# Altium schematic symbol library Isolator.SchLib: 419 symbols (part 3 of 5)
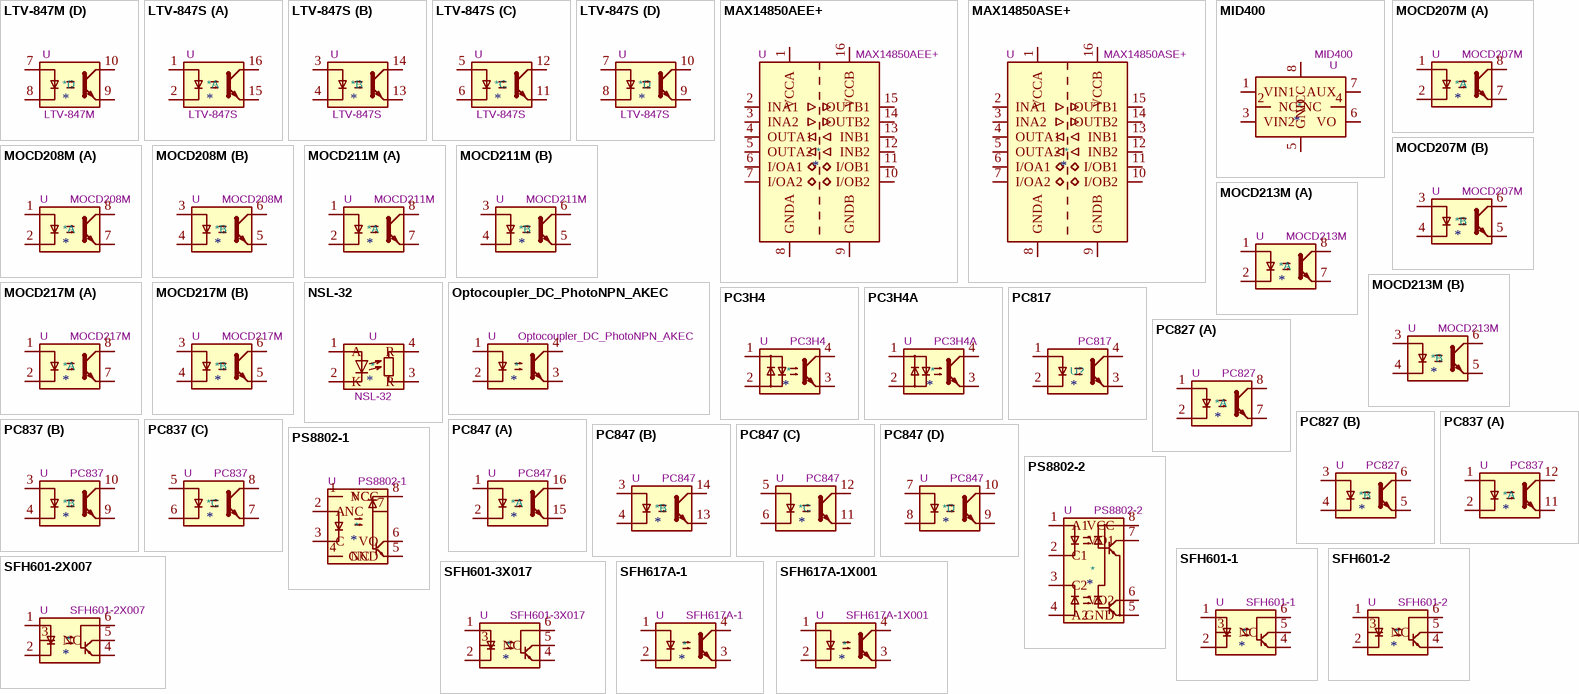
[diagram p14: symbols LTV-847M to SFH617A-1X001]

## PC3H4A
designator *  value PC3H4A  Reference: U
AC/DC Optocoupler, Vce 70V, CTR 100-250%, SOP4; ki_keywords: NPN AC DC Optocoupler; ki_fp_filters: SMDIP*W7.62mm*; Footprint: Package_DIP:SMDIP-4_W7.62mm; Datasheet: http://www.sharpsma.com/webfm_send/395; Description_: AC/DC Optocoupler, Vce 70V, CTR 100-250%, SOP4
pins: 1, 2, 3, 4

## PC817
designator U?  value PC817
DC Optocoupler, Vce 35V, CTR 50-300%, DIP-4; ki_keywords: NPN DC Optocoupler; ki_fp_filters: DIP*W7.62mm*; Reference: U; Footprint: Package_DIP:DIP-4_W7.62mm; Datasheet: http://www.soselectronic.cz/a_info/resource/d/pc817.pdf; Description_: DC Optocoupler, Vce 35V, CTR 50-300%, DIP-4
footprint DIP-4_W7.62mm
footprint DIP-4_W7.62mm_LongPads
pins: 1, 2, 3, 4

## PC827
designator *  value PC827  Reference: U
Dual DC Optocoupler, Vce 35V, CTR 50%, DIP-8; ki_keywords: NPN DC Dual Optocoupler; ki_fp_filters: DIP*W7.62mm*; Footprint: Package_DIP:DIP-8_W7.62mm; Datasheet: http://optoelectronics.liteon.com/upload/download/DS-70-96-0016/LTV-8X7%20series.PDF; Description_: Dual DC Optocoupler, Vce 35V, CTR 50%, DIP-8
part A pins: 1, 2, 7, 8
part B pins: 3, 4, 5, 6

## PC837
designator *  value PC837  Reference: U
DC Triple Optocoupler, Vce 35V, CTR 50-300%, DIP12; ki_keywords: NPN DC Triple Optocoupler; ki_fp_filters: DIP*W7.62mm*; Footprint: Package_DIP:DIP-12_W7.62mm; Datasheet: http://www.soselectronic.cz/a_info/resource/d/pc817.pdf; Description_: DC Triple Optocoupler, Vce 35V, CTR 50-300%, DIP12
part A pins: 1, 2, 11, 12
part B pins: 3, 4, 9, 10
part C pins: 5, 6, 7, 8

## PC847
designator *  value PC847  Reference: U
DC Quad Optocoupler, Vce 35V, CTR 50-300%, DIP16; ki_keywords: NPN DC Quad Optocoupler; ki_fp_filters: DIP*W7.62mm*; Footprint: Package_DIP:DIP-16_W7.62mm; Datasheet: http://www.soselectronic.cz/a_info/resource/d/pc817.pdf; Description_: DC Quad Optocoupler, Vce 35V, CTR 50-300%, DIP16
part A pins: 1, 2, 15, 16
part B pins: 3, 4, 13, 14
part C pins: 5, 6, 11, 12
part D pins: 7, 8, 9, 10

## PS8802-1
designator *  value PS8802-1  Reference: U
Single DC Optocoupler Base Connected, Vcc 35V, CTR 15%, Viso 2500V, SSOP-8; ki_keywords: NPN DC Optocoupler Base Connected; ki_fp_filters: SSOP*3.95x5.21x3.27mm?P1.27mm*; Footprint: Package_SO:SSOP-8_3.95x5.21x3.27mm_P1.27mm; Datasheet: http://www.cel.com/pdf/datasheets/ps8802.pdf; Description_: Single DC Optocoupler Base Connected, Vcc 35V, CTR 15%, Viso 2500V, SSOP-8
pins: 1 NC, 2 A, 3 C, 4 NC, 5 GND, 6 VO, 7 NC, 8 VCC

## PS8802-2
designator *  value PS8802-2  Reference: U
Dual DC Optocoupler Base Connected, Vcc 35V, CTR 15%, Viso 2500V, SSOP-8; ki_keywords: Dual NPN DC Optocoupler Base Connected; ki_fp_filters: SSOP*3.95x5.21x3.27mm?P1.27mm*; Footprint: Package_SO:SSOP-8_3.95x5.21x3.27mm_P1.27mm; Datasheet: http://www.cel.com/pdf/datasheets/ps8802.pdf; Description_: Dual DC Optocoupler Base Connected, Vcc 35V, CTR 15%, Viso 2500V, SSOP-8
pins: 1 A1, 2 C1, 3 C2, 4 A2, 5 GND, 6 VO2, 7 VO1, 8 VCC

## SFH601-1
designator *  value SFH601-1  Reference: U
Optocoupler, phototransistor output with base connection, CTR 40-80%, Vceo 100V, Viso 5000Vrms, DIP-6; ki_keywords: NPN DC-optocoupler; ki_fp_filters: DIP*W7.62mm*; Footprint: Package_DIP:DIP-6_W7.62mm; Datasheet: https://www.vishay.com/docs/83663/sfh601.pdf; Description_: Optocoupler, phototransistor output with base connection, CTR 40-80%, Vceo 100V, Viso 5000Vrms, DIP-6
pins: 1, 2, 3 NC, 4, 5, 6

## SFH601-2
designator *  value SFH601-2  Reference: U
Optocoupler, phototransistor output with base connection, CTR 63-125%, Vceo 100V, Viso 5000Vrms, DIP-6; ki_keywords: NPN DC-optocoupler; ki_fp_filters: DIP*W7.62mm*; Footprint: Package_DIP:DIP-6_W7.62mm; Datasheet: https://www.vishay.com/docs/83663/sfh601.pdf; Description_: Optocoupler, phototransistor output with base connection, CTR 63-125%, Vceo 100V, Viso 5000Vrms, DIP-6
pins: 1, 2, 3 NC, 4, 5, 6

## SFH601-2X007
designator *  value SFH601-2X007  Reference: U
Optocoupler, phototransistor output with base connection, CTR 63-125%, Vceo 100V, Viso 5000Vrms, DIP-6 (SMD, option 7); ki_keywords: NPN DC-optocoupler Obsolete; ki_fp_filters: SMDIP*W7.62mm*; Footprint: Package_DIP:SMDIP-6_W7.62mm; Datasheet: https://docs.rs-online.com/fcc5/0900766b80e308e7.pdf; Description_: Optocoupler, phototransistor output with base connection, CTR 63-125%, Vceo 100V, Viso 5000Vrms, DIP-6 (SMD, option 7)
pins: 1, 2, 3 NC, 4, 5, 6

## SFH601-3X017
designator *  value SFH601-3X017  Reference: U
Optocoupler, phototransistor output with base connection, CTR 100-200%, Vceo 100V, Viso 5000Vrms, DIP-6 (SMD, option 7); ki_keywords: NPN DC-optocoupler; ki_fp_filters: SMDIP*W7.62mm*; Footprint: Package_DIP:SMDIP-6_W7.62mm; Datasheet: https://www.vishay.com/docs/83663/sfh601.pdf; Description_: Optocoupler, phototransistor output with base connection, CTR 100-200%, Vceo 100V, Viso 5000Vrms, DIP-6 (SMD, option 7)
pins: 1, 2, 3 NC, 4, 5, 6

## SFH617A-1
designator *  value SFH617A-1  Reference: U
Optocoupler, Phototransistor Output, 5300 VRMS, VCEO 70V, CTR% 40-80, -55 to +110 degree Celsius, UL, BSI, FIMKO, cUL, THT PDIP-4; ki_fp_filters: DIP*W7.62mm*; Footprint: Package_DIP:DIP-4_W7.62mm; Datasheet: http://www.vishay.com/docs/83740/sfh617a.pdf; Description_: Optocoupler, Phototransistor Output, 5300 VRMS, VCEO 70V, CTR% 40-80, -55 to +110 degree Celsius, UL, BSI, FIMKO, cUL, THT PDIP-4; ki_keywords: Optocoupler, Phototransistor Output, 5300 VRMS, VCEO 70V, CTR% 40-80
pins: 1, 2, 3, 4

## SFH617A-1X001
designator *  value SFH617A-1X001  Reference: U
Optocoupler, Phototransistor Output, 5300 VRMS, VCEO 70V, CTR% 40-80, -55 to +110 degree Celsius, VDE, UL, BSI, FIMKO, cUL, THT PDIP-4; ki_fp_filters: DIP*W7.62mm*; Footprint: Package_DIP:DIP-4_W7.62mm; Datasheet: http://www.vishay.com/docs/83740/sfh617a.pdf; Description_: Optocoupler, Phototransistor Output, 5300 VRMS, VCEO 70V, CTR% 40-80, -55 to +110 degree Celsius, VDE, UL, BSI, FIMKO, cUL, THT PDIP-4; ki_keywords: Optocoupler, Phototransistor Output, 5300 VRMS, VCEO 70V, CTR% 40-80
pins: 1, 2, 3, 4

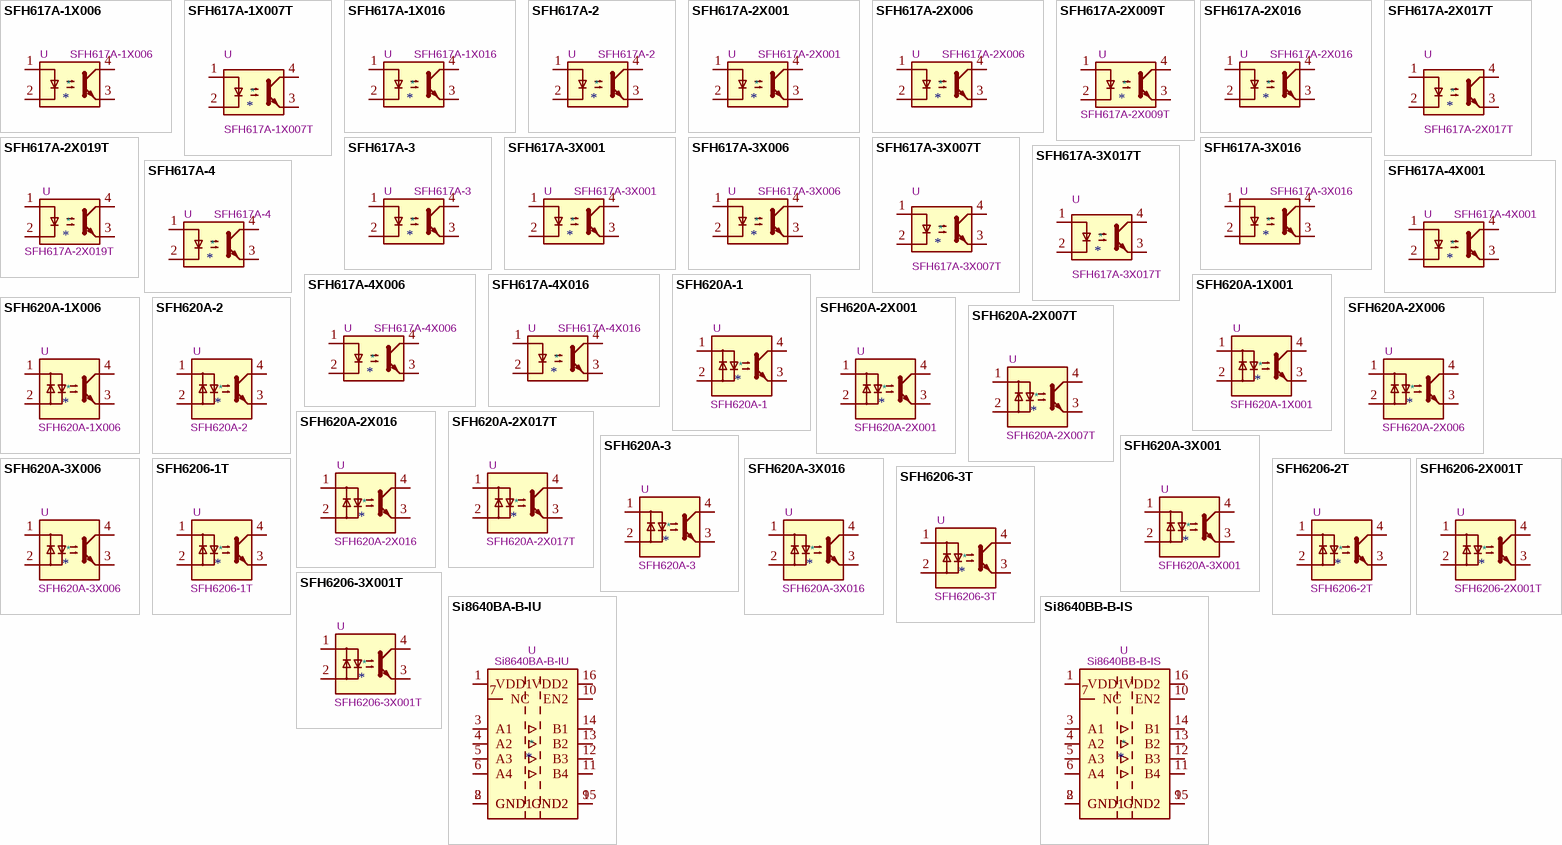
[diagram p6: symbols SFH617A-1X006 to Si8640BB-B-IS]

## SFH617A-1X006
designator *  value SFH617A-1X006  Reference: U
Optocoupler, Phototransistor Output, 5300 VRMS, VCEO 70V, CTR% 40-80, -55 to +110 degree Celsius, UL, BSI, FIMKO, cUL, wide THT PDIP-4; ki_fp_filters: DIP*W10.16mm*; Footprint: Package_DIP:DIP-4_W10.16mm; Datasheet: http://www.vishay.com/docs/83740/sfh617a.pdf; Description_: Optocoupler, Phototransistor Output, 5300 VRMS, VCEO 70V, CTR% 40-80, -55 to +110 degree Celsius, UL, BSI, FIMKO, cUL, wide THT PDIP-4; ki_keywords: Optocoupler, Phototransistor Output, 5300 VRMS, VCEO 70V, CTR% 40-80
pins: 1, 2, 3, 4

## SFH617A-1X007T
designator *  value SFH617A-1X007T  Reference: U
Optocoupler, Phototransistor Output, 5300 VRMS, VCEO 70V, CTR% 40-80, -55 to +110 degree Celsius, UL, BSI, FIMKO, cUL, 8mm clearence SMD PDIP-4; ki_fp_filters: SMDIP*W9.53mm*Clearance8mm*; Footprint: Package_DIP:SMDIP-4_W9.53mm_Clearance8mm; Datasheet: http://www.vishay.com/docs/83740/sfh617a.pdf; Description_: Optocoupler, Phototransistor Output, 5300 VRMS, VCEO 70V, CTR% 40-80, -55 to +110 degree Celsius, UL, BSI, FIMKO, cUL, 8mm clearence SMD PDIP-4; ki_keywords: Optocoupler, Phototransistor Output, 5300 VRMS, VCEO 70V, CTR% 40-80
pins: 1, 2, 3, 4

## SFH617A-1X016
designator *  value SFH617A-1X016  Reference: U
Optocoupler, Phototransistor Output, 5300 VRMS, VCEO 70V, CTR% 40-80, -55 to +110 degree Celsius, VDE, UL, BSI, FIMKO, cUL, wide THT PDIP-4; ki_fp_filters: DIP*W10.16mm*; Footprint: Package_DIP:DIP-4_W10.16mm; Datasheet: http://www.vishay.com/docs/83740/sfh617a.pdf; Description_: Optocoupler, Phototransistor Output, 5300 VRMS, VCEO 70V, CTR% 40-80, -55 to +110 degree Celsius, VDE, UL, BSI, FIMKO, cUL, wide THT PDIP-4; ki_keywords: Optocoupler, Phototransistor Output, 5300 VRMS, VCEO 70V, CTR% 40-80
pins: 1, 2, 3, 4

## SFH617A-2
designator *  value SFH617A-2  Reference: U
Optocoupler, Phototransistor Output, 5300 VRMS, VCEO 70V, CTR% 63-125, -55 to +110 degree Celsius, UL, BSI, FIMKO, cUL, THT PDIP-4; ki_fp_filters: DIP*W7.62mm*; Footprint: Package_DIP:DIP-4_W7.62mm; Datasheet: http://www.vishay.com/docs/83740/sfh617a.pdf; Description_: Optocoupler, Phototransistor Output, 5300 VRMS, VCEO 70V, CTR% 63-125, -55 to +110 degree Celsius, UL, BSI, FIMKO, cUL, THT PDIP-4; ki_keywords: Optocoupler, Phototransistor Output, 5300 VRMS, VCEO 70V, CTR% 63-125
pins: 1, 2, 3, 4

## SFH617A-2X001
designator *  value SFH617A-2X001  Reference: U
Optocoupler, Phototransistor Output, 5300 VRMS, VCEO 70V, CTR% 63-125, -55 to +110 degree Celsius, VDE, UL, BSI, FIMKO, THT PDIP-4; ki_fp_filters: DIP*W7.62mm*; Footprint: Package_DIP:DIP-4_W7.62mm; Datasheet: http://www.vishay.com/docs/83740/sfh617a.pdf; Description_: Optocoupler, Phototransistor Output, 5300 VRMS, VCEO 70V, CTR% 63-125, -55 to +110 degree Celsius, VDE, UL, BSI, FIMKO, THT PDIP-4; ki_keywords: Optocoupler, Phototransistor Output, 5300 VRMS, VCEO 70V, CTR% 63-125
pins: 1, 2, 3, 4

## SFH617A-2X006
designator *  value SFH617A-2X006  Reference: U
Optocoupler, Phototransistor Output, 5300 VRMS, VCEO 70V, CTR% 63-125, -55 to +110 degree Celsius, UL, BSI, FIMKO, cUL, wide THT PDIP-4; ki_fp_filters: DIP*W10.16mm*; Footprint: Package_DIP:DIP-4_W10.16mm; Datasheet: http://www.vishay.com/docs/83740/sfh617a.pdf; Description_: Optocoupler, Phototransistor Output, 5300 VRMS, VCEO 70V, CTR% 63-125, -55 to +110 degree Celsius, UL, BSI, FIMKO, cUL, wide THT PDIP-4; ki_keywords: Optocoupler, Phototransistor Output, 5300 VRMS, VCEO 70V, CTR% 63-125
pins: 1, 2, 3, 4

## SFH617A-2X009T
designator *  value SFH617A-2X009T  Reference: U
Optocoupler, Phototransistor Output, 5300 VRMS, VCEO 70V, CTR% 63-125, -55 to +110 degree Celsius, UL, BSI, FIMKO, SMD PDIP-4; ki_fp_filters: SMDIP*W9.53mm*Clearance8mm*; Footprint: Package_DIP:SMDIP-4_W9.53mm_Clearance8mm; Datasheet: http://www.vishay.com/docs/83740/sfh617a.pdf; Description_: Optocoupler, Phototransistor Output, 5300 VRMS, VCEO 70V, CTR% 63-125, -55 to +110 degree Celsius, UL, BSI, FIMKO, SMD PDIP-4; ki_keywords: Optocoupler, Phototransistor Output, 5300 VRMS, VCEO 70V, CTR% 63-125
pins: 1, 2, 3, 4

## SFH617A-2X016
designator *  value SFH617A-2X016  Reference: U
Optocoupler, Phototransistor Output, 5300 VRMS, VCEO 70V, CTR% 63-125, -55 to +110 degree Celsius, VDE, UL, BSI, FIMKO, wide THT PDIP-4; ki_fp_filters: DIP*W10.16mm*; Footprint: Package_DIP:DIP-4_W10.16mm; Datasheet: http://www.vishay.com/docs/83740/sfh617a.pdf; Description_: Optocoupler, Phototransistor Output, 5300 VRMS, VCEO 70V, CTR% 63-125, -55 to +110 degree Celsius, VDE, UL, BSI, FIMKO, wide THT PDIP-4; ki_keywords: Optocoupler, Phototransistor Output, 5300 VRMS, VCEO 70V, CTR% 63-125
pins: 1, 2, 3, 4

## SFH617A-2X017T
designator *  value SFH617A-2X017T  Reference: U
Optocoupler, Phototransistor Output, 5300 VRMS, VCEO 70V, CTR% 63-125, -55 to +110 degree Celsius, VDE, UL, BSI, FIMKO, 8mm clearence SMD PDIP-4; ki_fp_filters: SMDIP*W9.53mm*Clearance8mm*; Footprint: Package_DIP:SMDIP-4_W9.53mm_Clearance8mm; Datasheet: http://www.vishay.com/docs/83740/sfh617a.pdf; Description_: Optocoupler, Phototransistor Output, 5300 VRMS, VCEO 70V, CTR% 63-125, -55 to +110 degree Celsius, VDE, UL, BSI, FIMKO, 8mm clearence SMD PDIP-4; ki_keywords: Optocoupler, Phototransistor Output, 5300 VRMS, VCEO 70V, CTR% 63-125
pins: 1, 2, 3, 4

## SFH617A-2X019T
designator *  value SFH617A-2X019T  Reference: U
Optocoupler, Phototransistor Output, 5300 VRMS, VCEO 70V, CTR% 63-125, -55 to +110 degree Celsius, VDE, UL, BSI, FIMKO, SMD PDIP-4; ki_fp_filters: SMDIP*W9.53mm*Clearance8mm*; Footprint: Package_DIP:SMDIP-4_W9.53mm_Clearance8mm; Datasheet: http://www.vishay.com/docs/83740/sfh617a.pdf; Description_: Optocoupler, Phototransistor Output, 5300 VRMS, VCEO 70V, CTR% 63-125, -55 to +110 degree Celsius, VDE, UL, BSI, FIMKO, SMD PDIP-4; ki_keywords: Optocoupler, Phototransistor Output, 5300 VRMS, VCEO 70V, CTR% 63-125
pins: 1, 2, 3, 4

## SFH617A-3
designator *  value SFH617A-3  Reference: U
Optocoupler, Phototransistor Output, 5300 VRMS, VCEO 70V, CTR% 100-200, -55 to +110 degree Celsius, UL, BSI, FIMKO, THT PDIP-4; ki_fp_filters: DIP*W7.62mm*; Footprint: Package_DIP:DIP-4_W7.62mm; Datasheet: http://www.vishay.com/docs/83740/sfh617a.pdf; Description_: Optocoupler, Phototransistor Output, 5300 VRMS, VCEO 70V, CTR% 100-200, -55 to +110 degree Celsius, UL, BSI, FIMKO, THT PDIP-4; ki_keywords: Optocoupler, Phototransistor Output, 5300 VRMS, VCEO 70V, CTR% 100-200
pins: 1, 2, 3, 4

## SFH617A-3X001
designator *  value SFH617A-3X001  Reference: U
Optocoupler, Phototransistor Output, 5300 VRMS, VCEO 70V, CTR% 100-200, -55 to +110 degree Celsius, VDE, UL, BSI, FIMKO, THT PDIP-4; ki_fp_filters: DIP*W7.62mm*; Footprint: Package_DIP:DIP-4_W7.62mm; Datasheet: http://www.vishay.com/docs/83740/sfh617a.pdf; Description_: Optocoupler, Phototransistor Output, 5300 VRMS, VCEO 70V, CTR% 100-200, -55 to +110 degree Celsius, VDE, UL, BSI, FIMKO, THT PDIP-4; ki_keywords: Optocoupler, Phototransistor Output, 5300 VRMS, VCEO 70V, CTR% 100-200
pins: 1, 2, 3, 4

## SFH617A-3X006
designator *  value SFH617A-3X006  Reference: U
Optocoupler, Phototransistor Output, 5300 VRMS, VCEO 70V, CTR% 100-200, -55 to +110 degree Celsius, VDE, UL, BSI, FIMKO, wide THT PDIP-4; ki_fp_filters: DIP*W10.16mm*; Footprint: Package_DIP:DIP-4_W10.16mm; Datasheet: http://www.vishay.com/docs/83740/sfh617a.pdf; Description_: Optocoupler, Phototransistor Output, 5300 VRMS, VCEO 70V, CTR% 100-200, -55 to +110 degree Celsius, VDE, UL, BSI, FIMKO, wide THT PDIP-4; ki_keywords: Optocoupler, Phototransistor Output, 5300 VRMS, VCEO 70V, CTR% 100-200
pins: 1, 2, 3, 4

## SFH617A-3X007T
designator *  value SFH617A-3X007T  Reference: U
Optocoupler, Phototransistor Output, 5300 VRMS, VCEO 70V, CTR% 40-80, -55 to +110 degree Celsius, UL, BSI, FIMKO, cUL, 8mm clearence SMD PDIP-4; ki_fp_filters: SMDIP*W9.53mm*Clearance8mm*; Footprint: Package_DIP:SMDIP-4_W9.53mm_Clearance8mm; Datasheet: http://www.vishay.com/docs/83740/sfh617a.pdf; Description_: Optocoupler, Phototransistor Output, 5300 VRMS, VCEO 70V, CTR% 40-80, -55 to +110 degree Celsius, UL, BSI, FIMKO, cUL, 8mm clearence SMD PDIP-4; ki_keywords: Optocoupler, Phototransistor Output, 5300 VRMS, VCEO 70V, CTR% 40-80
pins: 1, 2, 3, 4

## SFH617A-3X016
designator *  value SFH617A-3X016  Reference: U
Optocoupler, Phototransistor Output, 5300 VRMS, VCEO 70V, CTR% 100-200, -55 to +110 degree Celsius, VDE, UL, BSI, FIMKO, wide THT PDIP-4; ki_fp_filters: DIP*W10.16mm*; Footprint: Package_DIP:DIP-4_W10.16mm; Datasheet: http://www.vishay.com/docs/83740/sfh617a.pdf; Description_: Optocoupler, Phototransistor Output, 5300 VRMS, VCEO 70V, CTR% 100-200, -55 to +110 degree Celsius, VDE, UL, BSI, FIMKO, wide THT PDIP-4; ki_keywords: Optocoupler, Phototransistor Output, 5300 VRMS, VCEO 70V, CTR% 100-200
pins: 1, 2, 3, 4

## SFH617A-3X017T
designator *  value SFH617A-3X017T  Reference: U
Optocoupler, Phototransistor Output, 5300 VRMS, VCEO 70V, CTR% 100-200, -55 to +110 degree Celsius, VDE, UL, BSI, FIMKO, 8mm clearence SMD PDIP-4; ki_fp_filters: SMDIP*W9.53mm*Clearance8mm*; Footprint: Package_DIP:SMDIP-4_W9.53mm_Clearance8mm; Datasheet: http://www.vishay.com/docs/83740/sfh617a.pdf; Description_: Optocoupler, Phototransistor Output, 5300 VRMS, VCEO 70V, CTR% 100-200, -55 to +110 degree Celsius, VDE, UL, BSI, FIMKO, 8mm clearence SMD PDIP-4; ki_keywords: Optocoupler, Phototransistor Output, 5300 VRMS, VCEO 70V, CTR% 100-200
pins: 1, 2, 3, 4

## SFH617A-4
designator *  value SFH617A-4  Reference: U
Optocoupler, Phototransistor Output, 5300 VRMS, VCEO 70V, CTR% 160-320, -55 to +110 degree Celsius, UL, BSI, FIMKO, cUL, THT PDIP-4; ki_fp_filters: DIP*W7.62mm*; Footprint: Package_DIP:DIP-4_W7.62mm; Datasheet: http://www.vishay.com/docs/83740/sfh617a.pdf; Description_: Optocoupler, Phototransistor Output, 5300 VRMS, VCEO 70V, CTR% 160-320, -55 to +110 degree Celsius, UL, BSI, FIMKO, cUL, THT PDIP-4; ki_keywords: Optocoupler, Phototransistor Output, 5300 VRMS, VCEO 70V, CTR% 160-320
pins: 1, 2, 3, 4

## SFH617A-4X001
designator *  value SFH617A-4X001  Reference: U
Optocoupler, Phototransistor Output, 5300 VRMS, VCEO 70V, CTR% 160-320, -55 to +110 degree Celsius, VDE, UL, BSI, FIMKO, THT PDIP-4; ki_fp_filters: DIP*W7.62mm*; Footprint: Package_DIP:DIP-4_W7.62mm; Datasheet: http://www.vishay.com/docs/83740/sfh617a.pdf; Description_: Optocoupler, Phototransistor Output, 5300 VRMS, VCEO 70V, CTR% 160-320, -55 to +110 degree Celsius, VDE, UL, BSI, FIMKO, THT PDIP-4; ki_keywords: Optocoupler, Phototransistor Output, 5300 VRMS, VCEO 70V, CTR% 160-320
pins: 1, 2, 3, 4

## SFH617A-4X006
designator *  value SFH617A-4X006  Reference: U
Optocoupler, Phototransistor Output, 5300 VRMS, VCEO 70V, CTR% 160-320, -55 to +110 degree Celsius, UL, BSI, FIMKO, cUL, wide THT PDIP-4; ki_fp_filters: DIP*W10.16mm*; Footprint: Package_DIP:DIP-4_W10.16mm; Datasheet: http://www.vishay.com/docs/83740/sfh617a.pdf; Description_: Optocoupler, Phototransistor Output, 5300 VRMS, VCEO 70V, CTR% 160-320, -55 to +110 degree Celsius, UL, BSI, FIMKO, cUL, wide THT PDIP-4; ki_keywords: Optocoupler, Phototransistor Output, 5300 VRMS, VCEO 70V, CTR% 160-320
pins: 1, 2, 3, 4

## SFH617A-4X016
designator *  value SFH617A-4X016  Reference: U
Optocoupler, Phototransistor Output, 5300 VRMS, VCEO 70V, CTR% 160-320, -55 to +110 degree Celsius, VDE, UL, BSI, FIMKO, wide THT PDIP-4; ki_fp_filters: DIP*W10.16mm*; Footprint: Package_DIP:DIP-4_W10.16mm; Datasheet: http://www.vishay.com/docs/83740/sfh617a.pdf; Description_: Optocoupler, Phototransistor Output, 5300 VRMS, VCEO 70V, CTR% 160-320, -55 to +110 degree Celsius, VDE, UL, BSI, FIMKO, wide THT PDIP-4; ki_keywords: Optocoupler, Phototransistor Output, 5300 VRMS, VCEO 70V, CTR% 160-320
pins: 1, 2, 3, 4

## SFH620A-1
designator *  value SFH620A-1  Reference: U
Optocoupler, Phototransistor Output, 5300 VRMS, VCEO 70V, CTR% 40-125, UL, cUL, BSI, THT PDIP-4; ki_fp_filters: DIP*W7.62mm*; Footprint: Package_DIP:DIP-4_W7.62mm; Datasheet: http://www.vishay.com/docs/83675/sfh620a.pdf; Description_: Optocoupler, Phototransistor Output, 5300 VRMS, VCEO 70V, CTR% 40-125, UL, cUL, BSI, THT PDIP-4; ki_keywords: Optocoupler, Phototransistor Output, 5300 VRMS, VCEO 70V, CTR% 40-125
pins: 1, 2, 3, 4

## SFH620A-1X001
designator *  value SFH620A-1X001  Reference: U
Optocoupler, Phototransistor Output, 5300 VRMS, VCEO 70V, CTR% 40-125 VDE, UL, CUL, BSI, THT PDIP-4; ki_fp_filters: DIP*W7.62mm*; Footprint: Package_DIP:DIP-4_W7.62mm; Datasheet: http://www.vishay.com/docs/83675/sfh620a.pdf; Description_: Optocoupler, Phototransistor Output, 5300 VRMS, VCEO 70V, CTR% 40-125 VDE, UL, CUL, BSI, THT PDIP-4; ki_keywords: Optocoupler, Phototransistor Output, 5300 VRMS, VCEO 70V, CTR% 40-125
pins: 1, 2, 3, 4

## SFH620A-1X006
designator *  value SFH620A-1X006  Reference: U
Optocoupler, Phototransistor Output, 5300 VRMS, VCEO 70V, CTR% 40-125, UL, cUL, BSI, THT PDIP-4; ki_fp_filters: DIP*W10.16mm*; Footprint: Package_DIP:DIP-4_W10.16mm; Datasheet: http://www.vishay.com/docs/83675/sfh620a.pdf; Description_: Optocoupler, Phototransistor Output, 5300 VRMS, VCEO 70V, CTR% 40-125, UL, cUL, BSI, THT PDIP-4; ki_keywords: Optocoupler, Phototransistor Output, 5300 VRMS, VCEO 70V, CTR% 40-125
pins: 1, 2, 3, 4

## SFH620A-2
designator *  value SFH620A-2  Reference: U
Optocoupler, Phototransistor Output, 5300 VRMS, VCEO 70V, CTR% 63-200 UL, cUL, BSI, THT PDIP-4; ki_fp_filters: DIP*W7.62mm*; Footprint: Package_DIP:DIP-4_W7.62mm; Datasheet: http://www.vishay.com/docs/83675/sfh620a.pdf; Description_: Optocoupler, Phototransistor Output, 5300 VRMS, VCEO 70V, CTR% 63-200 UL, cUL, BSI, THT PDIP-4; ki_keywords: Optocoupler, Phototransistor Output, 5300 VRMS, VCEO 70V, CTR% 63-200
pins: 1, 2, 3, 4

## SFH620A-2X001
designator *  value SFH620A-2X001  Reference: U
Optocoupler, Phototransistor Output, 5300 VRMS, VCEO 70V, CTR% 63-200 VDE, UL, CUL, BSI, THT PDIP-4; ki_fp_filters: DIP*W7.62mm*; Footprint: Package_DIP:DIP-4_W7.62mm; Datasheet: http://www.vishay.com/docs/83675/sfh620a.pdf; Description_: Optocoupler, Phototransistor Output, 5300 VRMS, VCEO 70V, CTR% 63-200 VDE, UL, CUL, BSI, THT PDIP-4; ki_keywords: Optocoupler, Phototransistor Output, 5300 VRMS, VCEO 70V, CTR% 63-200
pins: 1, 2, 3, 4

## SFH620A-2X006
designator *  value SFH620A-2X006  Reference: U
Optocoupler, Phototransistor Output, 5300 VRMS, VCEO 70V, CTR% 63-200 UL, cUL, BSI, THT PDIP-4; ki_fp_filters: DIP*W10.16mm*; Footprint: Package_DIP:DIP-4_W10.16mm; Datasheet: http://www.vishay.com/docs/83675/sfh620a.pdf; Description_: Optocoupler, Phototransistor Output, 5300 VRMS, VCEO 70V, CTR% 63-200 UL, cUL, BSI, THT PDIP-4; ki_keywords: Optocoupler, Phototransistor Output, 5300 VRMS, VCEO 70V, CTR% 63-200
pins: 1, 2, 3, 4

## SFH620A-2X007T
designator *  value SFH620A-2X007T  Reference: U
Optocoupler, Phototransistor Output, 5300 VRMS, VCEO 70V, CTR% 63-200 UL, cUL, BSI, SMD-4; ki_fp_filters: SMDIP*W9.53mm?Clearance8mm*; Footprint: Package_DIP:SMDIP-4_W9.53mm_Clearance8mm; Datasheet: http://www.vishay.com/docs/83675/sfh620a.pdf; Description_: Optocoupler, Phototransistor Output, 5300 VRMS, VCEO 70V, CTR% 63-200 UL, cUL, BSI, SMD-4; ki_keywords: Optocoupler, Phototransistor Output, 5300 VRMS, VCEO 70V, CTR% 63-200
pins: 1, 2, 3, 4

## SFH620A-2X016
designator *  value SFH620A-2X016  Reference: U
Optocoupler, Phototransistor Output, 5300 VRMS, VCEO 70V, CTR% 63-200 VDE, UL, CUL, BSI, SMD-4; ki_fp_filters: DIP*W10.16mm*; Footprint: Package_DIP:DIP-4_W10.16mm; Datasheet: http://www.vishay.com/docs/83675/sfh620a.pdf; Description_: Optocoupler, Phototransistor Output, 5300 VRMS, VCEO 70V, CTR% 63-200 VDE, UL, CUL, BSI, SMD-4; ki_keywords: Optocoupler, Phototransistor Output, 5300 VRMS, VCEO 70V, CTR% 63-200
pins: 1, 2, 3, 4

## SFH620A-2X017T
designator *  value SFH620A-2X017T  Reference: U
Optocoupler, Phototransistor Output, 5300 VRMS, VCEO 70V, CTR% 63-200 VDE, UL, CUL, BSI, SMD-4; ki_fp_filters: SMDIP*W9.53mm?Clearance8mm*; Footprint: Package_DIP:SMDIP-4_W9.53mm_Clearance8mm; Datasheet: http://www.vishay.com/docs/83675/sfh620a.pdf; Description_: Optocoupler, Phototransistor Output, 5300 VRMS, VCEO 70V, CTR% 63-200 VDE, UL, CUL, BSI, SMD-4; ki_keywords: Optocoupler, Phototransistor Output, 5300 VRMS, VCEO 70V, CTR% 63-200
pins: 1, 2, 3, 4

## SFH620A-3
designator *  value SFH620A-3  Reference: U
Optocoupler, Phototransistor Output, 5300 VRMS, VCEO 70V, CTR% 100-320 UL, cUL, BSI, THT PDIP-4; ki_fp_filters: DIP*W7.62mm*; Footprint: Package_DIP:DIP-4_W7.62mm; Datasheet: http://www.vishay.com/docs/83675/sfh620a.pdf; Description_: Optocoupler, Phototransistor Output, 5300 VRMS, VCEO 70V, CTR% 100-320 UL, cUL, BSI, THT PDIP-4; ki_keywords: Optocoupler, Phototransistor Output, 5300 VRMS, VCEO 70V, CTR% 100-320
pins: 1, 2, 3, 4

## SFH620A-3X001
designator *  value SFH620A-3X001  Reference: U
Optocoupler, Phototransistor Output, 5300 VRMS, VCEO 70V, CTR% 100-320 VDE, UL, CUL, BSI, THT PDIP-4; ki_fp_filters: DIP*W7.62mm*; Footprint: Package_DIP:DIP-4_W7.62mm; Datasheet: http://www.vishay.com/docs/83675/sfh620a.pdf; Description_: Optocoupler, Phototransistor Output, 5300 VRMS, VCEO 70V, CTR% 100-320 VDE, UL, CUL, BSI, THT PDIP-4; ki_keywords: Optocoupler, Phototransistor Output, 5300 VRMS, VCEO 70V, CTR% 100-320
pins: 1, 2, 3, 4

## SFH620A-3X006
designator *  value SFH620A-3X006  Reference: U
Optocoupler, Phototransistor Output, 5300 VRMS, VCEO 70V, CTR% 100-320 UL, cUL, BSI, THT PDIP-4; ki_fp_filters: DIP*W10.16mm*; Footprint: Package_DIP:DIP-4_W10.16mm; Datasheet: http://www.vishay.com/docs/83675/sfh620a.pdf; Description_: Optocoupler, Phototransistor Output, 5300 VRMS, VCEO 70V, CTR% 100-320 UL, cUL, BSI, THT PDIP-4; ki_keywords: Optocoupler, Phototransistor Output, 5300 VRMS, VCEO 70V, CTR% 100-320
pins: 1, 2, 3, 4

## SFH620A-3X016
designator *  value SFH620A-3X016  Reference: U
Optocoupler, Phototransistor Output, 5300 VRMS, VCEO 70V, CTR% 100-320 VDE, UL, CUL, BSI, SMD-4; ki_fp_filters: DIP*W10.16mm*; Footprint: Package_DIP:DIP-4_W10.16mm; Datasheet: http://www.vishay.com/docs/83675/sfh620a.pdf; Description_: Optocoupler, Phototransistor Output, 5300 VRMS, VCEO 70V, CTR% 100-320 VDE, UL, CUL, BSI, SMD-4; ki_keywords: Optocoupler, Phototransistor Output, 5300 VRMS, VCEO 70V, CTR% 100-320
pins: 1, 2, 3, 4

## SFH6206-1T
designator *  value SFH6206-1T  Reference: U
Optocoupler, Phototransistor Output, 5300 VRMS, VCEO 70V, CTR% 40-125, UL, cUL, BSI, SMD-4; ki_fp_filters: SMDIP*W9.53mm?Clearance8mm*; Footprint: Package_DIP:SMDIP-4_W9.53mm_Clearance8mm; Datasheet: http://www.vishay.com/docs/83675/sfh620a.pdf; Description_: Optocoupler, Phototransistor Output, 5300 VRMS, VCEO 70V, CTR% 40-125, UL, cUL, BSI, SMD-4; ki_keywords: Optocoupler, Phototransistor Output, 5300 VRMS, VCEO 70V, CTR% 40-125
pins: 1, 2, 3, 4

## SFH6206-2T
designator *  value SFH6206-2T  Reference: U
Optocoupler, Phototransistor Output, 5300 VRMS, VCEO 70V, CTR% 63-200, UL, cUL, BSI, SMD-4; ki_fp_filters: SMDIP*W9.53mm?Clearance8mm*; Footprint: Package_DIP:SMDIP-4_W9.53mm_Clearance8mm; Datasheet: http://www.vishay.com/docs/83675/sfh620a.pdf; Description_: Optocoupler, Phototransistor Output, 5300 VRMS, VCEO 70V, CTR% 63-200, UL, cUL, BSI, SMD-4; ki_keywords: Optocoupler, Phototransistor Output, 5300 VRMS, VCEO 70V, CTR% 63-200
pins: 1, 2, 3, 4

## SFH6206-2X001T
designator *  value SFH6206-2X001T  Reference: U
Optocoupler, Phototransistor Output, 5300 VRMS, VCEO 70V, CTR% 63-200, VDE, UL, CUL, BSI, SMD-4; ki_fp_filters: SMDIP*W9.53mm?Clearance8mm*; Footprint: Package_DIP:SMDIP-4_W9.53mm_Clearance8mm; Datasheet: http://www.vishay.com/docs/83675/sfh620a.pdf; Description_: Optocoupler, Phototransistor Output, 5300 VRMS, VCEO 70V, CTR% 63-200, VDE, UL, CUL, BSI, SMD-4; ki_keywords: Optocoupler, Phototransistor Output, 5300 VRMS, VCEO 70V, CTR% 63-200
pins: 1, 2, 3, 4

## SFH6206-3T
designator *  value SFH6206-3T  Reference: U
Optocoupler, Phototransistor Output, 5300 VRMS, VCEO 70V, CTR% 100-320, UL, cUL, BSI, SMD-4; ki_fp_filters: SMDIP*W9.53mm?Clearance8mm*; Footprint: Package_DIP:SMDIP-4_W9.53mm_Clearance8mm; Datasheet: http://www.vishay.com/docs/83675/sfh620a.pdf; Description_: Optocoupler, Phototransistor Output, 5300 VRMS, VCEO 70V, CTR% 100-320, UL, cUL, BSI, SMD-4; ki_keywords: Optocoupler, Phototransistor Output, 5300 VRMS, VCEO 70V, CTR% 100-320
pins: 1, 2, 3, 4

## SFH6206-3X001T
designator *  value SFH6206-3X001T  Reference: U
Optocoupler, Phototransistor Output, 5300 VRMS, VCEO 70V, CTR% 100-320, VDE, UL, CUL, BSI, SMD-4; ki_fp_filters: SMDIP*W9.53mm?Clearance8mm*; Footprint: Package_DIP:SMDIP-4_W9.53mm_Clearance8mm; Datasheet: http://www.vishay.com/docs/83675/sfh620a.pdf; Description_: Optocoupler, Phototransistor Output, 5300 VRMS, VCEO 70V, CTR% 100-320, VDE, UL, CUL, BSI, SMD-4; ki_keywords: Optocoupler, Phototransistor Output, 5300 VRMS, VCEO 70V, CTR% 100-320
pins: 1, 2, 3, 4

## Si8640BA-B-IU
designator *  value Si8640BA-B-IU  Reference: U
Low-Power Quad-Channel Digital Isolator, 150Mbps, 2.5-5.5V, 1.0kV isolation, Fail-Safe Low, QSOP-16; ki_keywords: 4Ch 4In Quad Digital Isolator 150Mbps; ki_fp_filters: QSOP*3.9x4.9mm*P0.635mm*; Footprint: Package_SO:QSOP-16_3.9x4.9mm_P0.635mm; Datasheet: https://www.silabs.com/documents/public/data-sheets/si864x-datasheet.pdf; Description_: Low-Power Quad-Channel Digital Isolator, 150Mbps, 2.5-5.5V, 1.0kV isolation, Fail-Safe Low, QSOP-16
pins: 1 VDD1, 2 GND1, 3 A1, 4 A2, 5 A3, 6 A4, 7 NC, 8 GND1, 9 GND2, 10 EN2, 11 B4, 12 B3, 13 B2, 14 B1, 15 GND2, 16 VDD2

## Si8640BB-B-IS
designator *  value Si8640BB-B-IS  Reference: U
Low-Power Quad-Channel Digital Isolator, 150Mbps, 2.5-5.5V, 2.5kV isolation, Fail-Safe Low, SOIC-16W; ki_keywords: 4Ch 4In Quad Digital Isolator 150Mbps; ki_fp_filters: SOIC*7.5x10.3mm*P1.27mm*; Footprint: Package_SO:SOIC-16W_7.5x10.3mm_P1.27mm; Datasheet: https://www.silabs.com/documents/public/data-sheets/si864x-datasheet.pdf; Description_: Low-Power Quad-Channel Digital Isolator, 150Mbps, 2.5-5.5V, 2.5kV isolation, Fail-Safe Low, SOIC-16W
pins: 1 VDD1, 2 GND1, 3 A1, 4 A2, 5 A3, 6 A4, 7 NC, 8 GND1, 9 GND2, 10 EN2, 11 B4, 12 B3, 13 B2, 14 B1, 15 GND2, 16 VDD2

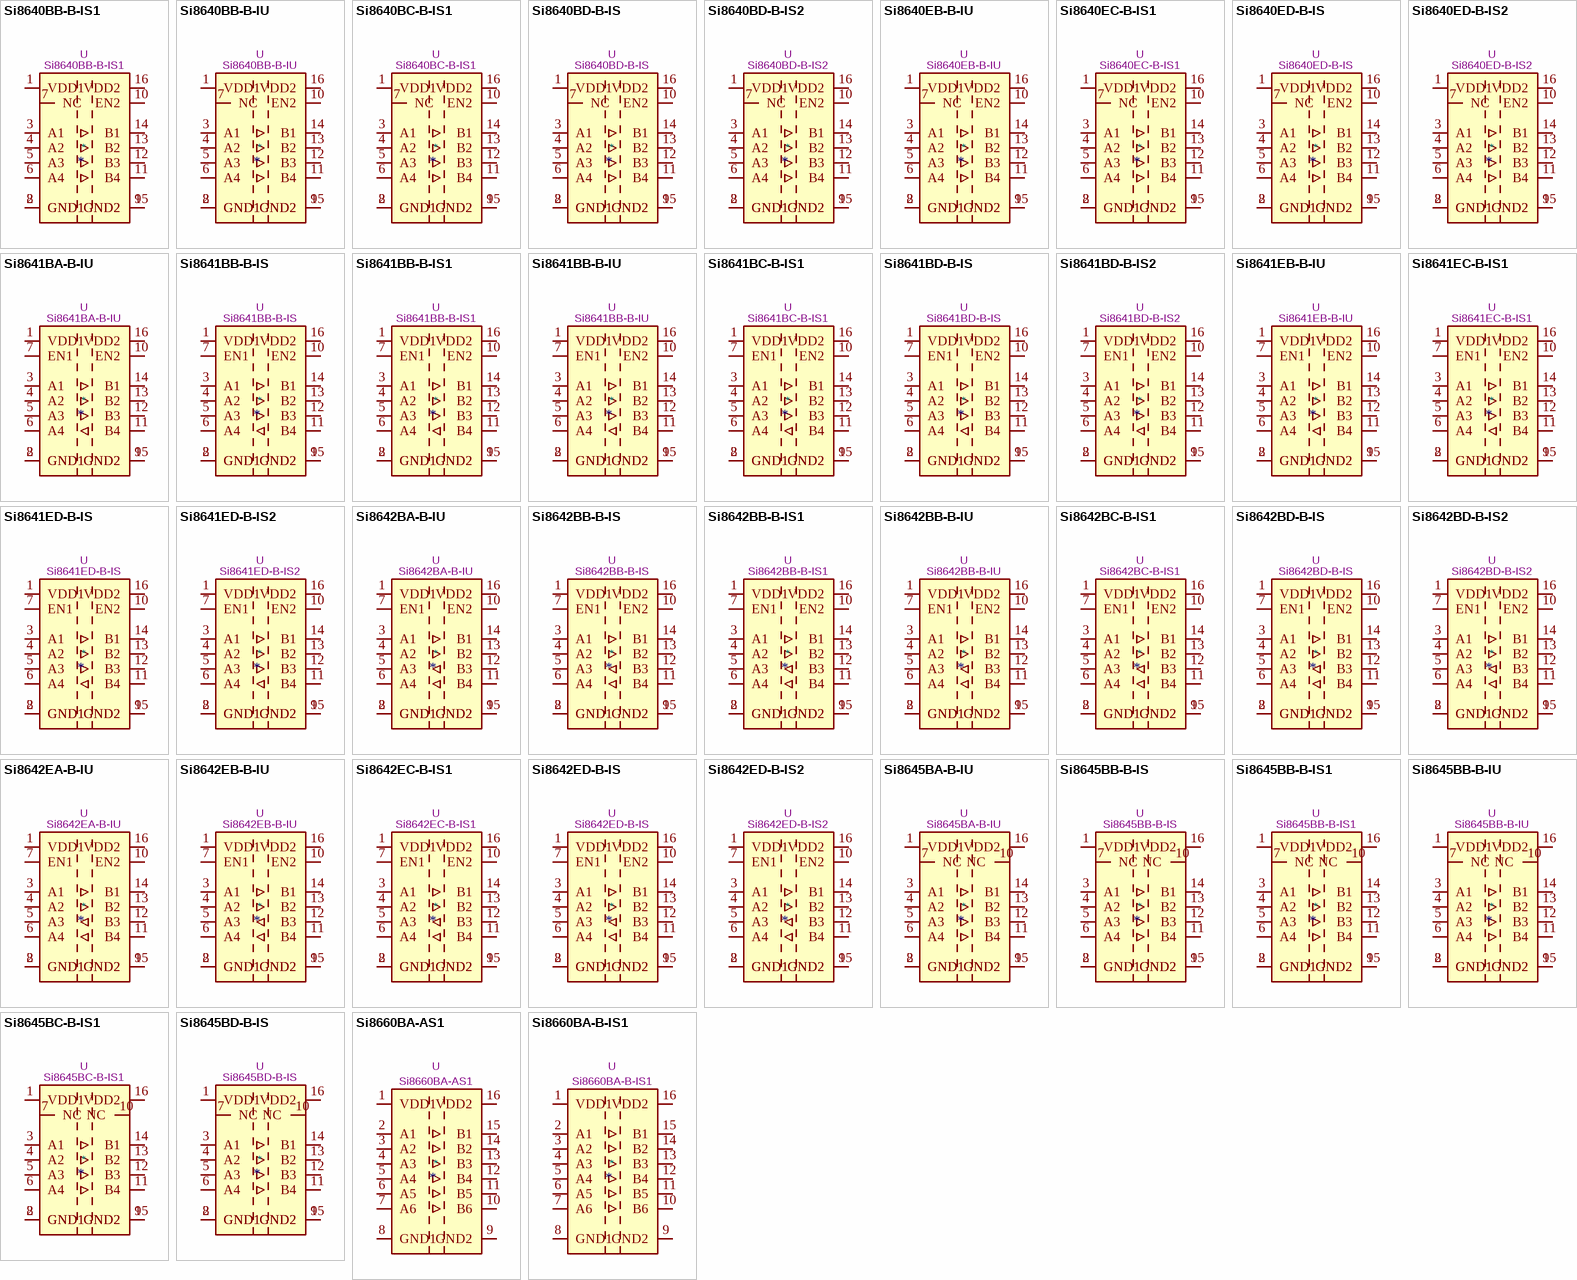
[diagram p7: symbols Si8640BB-B-IS1 to Si8660BA-B-IS1]

## Si8640BB-B-IS1
designator *  value Si8640BB-B-IS1  Reference: U
Low-Power Quad-Channel Digital Isolator, 150Mbps, 2.5-5.5V, 2.5kV isolation, Fail-Safe Low, SOIC-16; ki_keywords: 4Ch 4In Quad Digital Isolator 150Mbps; ki_fp_filters: SOIC*3.9x9.9mm*P1.27mm*; Footprint: Package_SO:SOIC-16_3.9x9.9mm_P1.27mm; Datasheet: https://www.silabs.com/documents/public/data-sheets/si864x-datasheet.pdf; Description_: Low-Power Quad-Channel Digital Isolator, 150Mbps, 2.5-5.5V, 2.5kV isolation, Fail-Safe Low, SOIC-16
pins: 1 VDD1, 2 GND1, 3 A1, 4 A2, 5 A3, 6 A4, 7 NC, 8 GND1, 9 GND2, 10 EN2, 11 B4, 12 B3, 13 B2, 14 B1, 15 GND2, 16 VDD2

## Si8640BB-B-IU
designator *  value Si8640BB-B-IU  Reference: U
Low-Power Quad-Channel Digital Isolator, 150Mbps, 2.5-5.5V, 2.5kV isolation, Fail-Safe Low, QSOP-16; ki_keywords: 4Ch 4In Quad Digital Isolator 150Mbps; ki_fp_filters: QSOP*3.9x4.9mm*P0.635mm*; Footprint: Package_SO:QSOP-16_3.9x4.9mm_P0.635mm; Datasheet: https://www.silabs.com/documents/public/data-sheets/si864x-datasheet.pdf; Description_: Low-Power Quad-Channel Digital Isolator, 150Mbps, 2.5-5.5V, 2.5kV isolation, Fail-Safe Low, QSOP-16
pins: 1 VDD1, 2 GND1, 3 A1, 4 A2, 5 A3, 6 A4, 7 NC, 8 GND1, 9 GND2, 10 EN2, 11 B4, 12 B3, 13 B2, 14 B1, 15 GND2, 16 VDD2

## Si8640BC-B-IS1
designator *  value Si8640BC-B-IS1  Reference: U
Low-Power Quad-Channel Digital Isolator, 150Mbps, 2.5-5.5V, 3.75kV isolation, Fail-Safe Low, SOIC-16; ki_keywords: 4Ch 4In Quad Digital Isolator 150Mbps; ki_fp_filters: SOIC*3.9x9.9mm*P1.27mm*; Footprint: Package_SO:SOIC-16_3.9x9.9mm_P1.27mm; Datasheet: https://www.silabs.com/documents/public/data-sheets/si864x-datasheet.pdf; Description_: Low-Power Quad-Channel Digital Isolator, 150Mbps, 2.5-5.5V, 3.75kV isolation, Fail-Safe Low, SOIC-16
pins: 1 VDD1, 2 GND1, 3 A1, 4 A2, 5 A3, 6 A4, 7 NC, 8 GND1, 9 GND2, 10 EN2, 11 B4, 12 B3, 13 B2, 14 B1, 15 GND2, 16 VDD2

## Si8640BD-B-IS
designator *  value Si8640BD-B-IS  Reference: U
Low-Power Quad-Channel Digital Isolator, 150Mbps, 2.5-5.5V, 5.0kV isolation, Fail-Safe Low, SOIC-16W; ki_keywords: 4Ch 4In Quad Digital Isolator 150Mbps; ki_fp_filters: SOIC*7.5x10.3mm*P1.27mm*; Footprint: Package_SO:SOIC-16W_7.5x10.3mm_P1.27mm; Datasheet: https://www.silabs.com/documents/public/data-sheets/si864x-datasheet.pdf; Description_: Low-Power Quad-Channel Digital Isolator, 150Mbps, 2.5-5.5V, 5.0kV isolation, Fail-Safe Low, SOIC-16W
pins: 1 VDD1, 2 GND1, 3 A1, 4 A2, 5 A3, 6 A4, 7 NC, 8 GND1, 9 GND2, 10 EN2, 11 B4, 12 B3, 13 B2, 14 B1, 15 GND2, 16 VDD2

## Si8640BD-B-IS2
designator *  value Si8640BD-B-IS2  Reference: U
Low-Power Quad-Channel Digital Isolator, 150Mbps, 2.5-5.5V, 5.0kV isolation, Fail-Safe Low, 8mm creepage, SOIC-16W; ki_keywords: 4Ch 4In Quad Digital Isolator 150Mbps; ki_fp_filters: SOIC*7.5x10.3mm*P1.27mm*; Footprint: Package_SO:SOIC-16W_7.5x10.3mm_P1.27mm; Datasheet: https://www.silabs.com/documents/public/data-sheets/si864x-datasheet.pdf; Description_: Low-Power Quad-Channel Digital Isolator, 150Mbps, 2.5-5.5V, 5.0kV isolation, Fail-Safe Low, 8mm creepage, SOIC-16W
pins: 1 VDD1, 2 GND1, 3 A1, 4 A2, 5 A3, 6 A4, 7 NC, 8 GND1, 9 GND2, 10 EN2, 11 B4, 12 B3, 13 B2, 14 B1, 15 GND2, 16 VDD2

## Si8640EB-B-IU
designator *  value Si8640EB-B-IU  Reference: U
Low-Power Quad-Channel Digital Isolator, 150Mbps, 2.5-5.5V, 2.5kV isolation, Fail-Safe High, QSOP-16; ki_keywords: 4Ch 4In Quad Digital Isolator 150Mbps; ki_fp_filters: QSOP*3.9x4.9mm*P0.635mm*; Footprint: Package_SO:QSOP-16_3.9x4.9mm_P0.635mm; Datasheet: https://www.silabs.com/documents/public/data-sheets/si864x-datasheet.pdf; Description_: Low-Power Quad-Channel Digital Isolator, 150Mbps, 2.5-5.5V, 2.5kV isolation, Fail-Safe High, QSOP-16
pins: 1 VDD1, 2 GND1, 3 A1, 4 A2, 5 A3, 6 A4, 7 NC, 8 GND1, 9 GND2, 10 EN2, 11 B4, 12 B3, 13 B2, 14 B1, 15 GND2, 16 VDD2

## Si8640EC-B-IS1
designator *  value Si8640EC-B-IS1  Reference: U
Low-Power Quad-Channel Digital Isolator, 150Mbps, 2.5-5.5V, 3.75kV isolation, Fail-Safe High, SOIC-16; ki_keywords: 4Ch 4In Quad Digital Isolator 150Mbps; ki_fp_filters: SOIC*3.9x9.9mm*P1.27mm*; Footprint: Package_SO:SOIC-16_3.9x9.9mm_P1.27mm; Datasheet: https://www.silabs.com/documents/public/data-sheets/si864x-datasheet.pdf; Description_: Low-Power Quad-Channel Digital Isolator, 150Mbps, 2.5-5.5V, 3.75kV isolation, Fail-Safe High, SOIC-16
pins: 1 VDD1, 2 GND1, 3 A1, 4 A2, 5 A3, 6 A4, 7 NC, 8 GND1, 9 GND2, 10 EN2, 11 B4, 12 B3, 13 B2, 14 B1, 15 GND2, 16 VDD2

## Si8640ED-B-IS
designator *  value Si8640ED-B-IS  Reference: U
Low-Power Quad-Channel Digital Isolator, 150Mbps, 2.5-5.5V, 5.0kV isolation, Fail-Safe High, SOIC-16W; ki_keywords: 4Ch 4In Quad Digital Isolator 150Mbps; ki_fp_filters: SOIC*7.5x10.3mm*P1.27mm*; Footprint: Package_SO:SOIC-16W_7.5x10.3mm_P1.27mm; Datasheet: https://www.silabs.com/documents/public/data-sheets/si864x-datasheet.pdf; Description_: Low-Power Quad-Channel Digital Isolator, 150Mbps, 2.5-5.5V, 5.0kV isolation, Fail-Safe High, SOIC-16W
pins: 1 VDD1, 2 GND1, 3 A1, 4 A2, 5 A3, 6 A4, 7 NC, 8 GND1, 9 GND2, 10 EN2, 11 B4, 12 B3, 13 B2, 14 B1, 15 GND2, 16 VDD2

## Si8640ED-B-IS2
designator *  value Si8640ED-B-IS2  Reference: U
Low-Power Quad-Channel Digital Isolator, 150Mbps, 2.5-5.5V, 5.0kV isolation, Fail-Safe High, 8mm creepage, SOIC-16W; ki_keywords: 4Ch 4In Quad Digital Isolator 150Mbps; ki_fp_filters: SOIC*7.5x10.3mm*P1.27mm*; Footprint: Package_SO:SOIC-16W_7.5x10.3mm_P1.27mm; Datasheet: https://www.silabs.com/documents/public/data-sheets/si864x-datasheet.pdf; Description_: Low-Power Quad-Channel Digital Isolator, 150Mbps, 2.5-5.5V, 5.0kV isolation, Fail-Safe High, 8mm creepage, SOIC-16W
pins: 1 VDD1, 2 GND1, 3 A1, 4 A2, 5 A3, 6 A4, 7 NC, 8 GND1, 9 GND2, 10 EN2, 11 B4, 12 B3, 13 B2, 14 B1, 15 GND2, 16 VDD2

## Si8641BA-B-IU
designator *  value Si8641BA-B-IU  Reference: U
Low-Power Quad-Channel Digital Isolator, 150Mbps, 2.5-5.5V, 1.0kV isolation, Fail-Safe Low, QSOP-16; ki_keywords: 4Ch 3In 1Out Quad Digital Isolator 150Mbps; ki_fp_filters: QSOP*3.9x4.9mm*P0.635mm*; Footprint: Package_SO:QSOP-16_3.9x4.9mm_P0.635mm; Datasheet: https://www.silabs.com/documents/public/data-sheets/si864x-datasheet.pdf; Description_: Low-Power Quad-Channel Digital Isolator, 150Mbps, 2.5-5.5V, 1.0kV isolation, Fail-Safe Low, QSOP-16
pins: 1 VDD1, 2 GND1, 3 A1, 4 A2, 5 A3, 6 A4, 7 EN1, 8 GND1, 9 GND2, 10 EN2, 11 B4, 12 B3, 13 B2, 14 B1, 15 GND2, 16 VDD2

## Si8641BB-B-IS
designator *  value Si8641BB-B-IS  Reference: U
Low-Power Quad-Channel Digital Isolator, 150Mbps, 2.5-5.5V, 2.5kV isolation, Fail-Safe Low, SOIC-16W; ki_keywords: 4Ch 3In 1Out Quad Digital Isolator 150Mbps; ki_fp_filters: SOIC*7.5x10.3mm*P1.27mm*; Footprint: Package_SO:SOIC-16W_7.5x10.3mm_P1.27mm; Datasheet: https://www.silabs.com/documents/public/data-sheets/si864x-datasheet.pdf; Description_: Low-Power Quad-Channel Digital Isolator, 150Mbps, 2.5-5.5V, 2.5kV isolation, Fail-Safe Low, SOIC-16W
pins: 1 VDD1, 2 GND1, 3 A1, 4 A2, 5 A3, 6 A4, 7 EN1, 8 GND1, 9 GND2, 10 EN2, 11 B4, 12 B3, 13 B2, 14 B1, 15 GND2, 16 VDD2

## Si8641BB-B-IS1
designator *  value Si8641BB-B-IS1  Reference: U
Low-Power Quad-Channel Digital Isolator, 150Mbps, 2.5-5.5V, 2.5kV isolation, Fail-Safe Low, SOIC-16; ki_keywords: 4Ch 3In 1Out Quad Digital Isolator 150Mbps; ki_fp_filters: SOIC*3.9x9.9mm*P1.27mm*; Footprint: Package_SO:SOIC-16_3.9x9.9mm_P1.27mm; Datasheet: https://www.silabs.com/documents/public/data-sheets/si864x-datasheet.pdf; Description_: Low-Power Quad-Channel Digital Isolator, 150Mbps, 2.5-5.5V, 2.5kV isolation, Fail-Safe Low, SOIC-16
pins: 1 VDD1, 2 GND1, 3 A1, 4 A2, 5 A3, 6 A4, 7 EN1, 8 GND1, 9 GND2, 10 EN2, 11 B4, 12 B3, 13 B2, 14 B1, 15 GND2, 16 VDD2

## Si8641BB-B-IU
designator *  value Si8641BB-B-IU  Reference: U
Low-Power Quad-Channel Digital Isolator, 150Mbps, 2.5-5.5V, 2.5kV isolation, Fail-Safe Low, QSOP-16; ki_keywords: 4Ch 3In 1Out Quad Digital Isolator 150Mbps; ki_fp_filters: QSOP*3.9x4.9mm*P0.635mm*; Footprint: Package_SO:QSOP-16_3.9x4.9mm_P0.635mm; Datasheet: https://www.silabs.com/documents/public/data-sheets/si864x-datasheet.pdf; Description_: Low-Power Quad-Channel Digital Isolator, 150Mbps, 2.5-5.5V, 2.5kV isolation, Fail-Safe Low, QSOP-16
pins: 1 VDD1, 2 GND1, 3 A1, 4 A2, 5 A3, 6 A4, 7 EN1, 8 GND1, 9 GND2, 10 EN2, 11 B4, 12 B3, 13 B2, 14 B1, 15 GND2, 16 VDD2

## Si8641BC-B-IS1
designator *  value Si8641BC-B-IS1  Reference: U
Low-Power Quad-Channel Digital Isolator, 150Mbps, 2.5-5.5V, 3.75kV isolation, Fail-Safe Low, SOIC-16; ki_keywords: 4Ch 3In 1Out Quad Digital Isolator 150Mbps; ki_fp_filters: SOIC*3.9x9.9mm*P1.27mm*; Footprint: Package_SO:SOIC-16_3.9x9.9mm_P1.27mm; Datasheet: https://www.silabs.com/documents/public/data-sheets/si864x-datasheet.pdf; Description_: Low-Power Quad-Channel Digital Isolator, 150Mbps, 2.5-5.5V, 3.75kV isolation, Fail-Safe Low, SOIC-16
pins: 1 VDD1, 2 GND1, 3 A1, 4 A2, 5 A3, 6 A4, 7 EN1, 8 GND1, 9 GND2, 10 EN2, 11 B4, 12 B3, 13 B2, 14 B1, 15 GND2, 16 VDD2

## Si8641BD-B-IS
designator *  value Si8641BD-B-IS  Reference: U
Low-Power Quad-Channel Digital Isolator, 150Mbps, 2.5-5.5V, 5.0kV isolation, Fail-Safe Low, SOIC-16W; ki_keywords: 4Ch 3In 1Out Quad Digital Isolator 150Mbps; ki_fp_filters: SOIC*7.5x10.3mm*P1.27mm*; Footprint: Package_SO:SOIC-16W_7.5x10.3mm_P1.27mm; Datasheet: https://www.silabs.com/documents/public/data-sheets/si864x-datasheet.pdf; Description_: Low-Power Quad-Channel Digital Isolator, 150Mbps, 2.5-5.5V, 5.0kV isolation, Fail-Safe Low, SOIC-16W
pins: 1 VDD1, 2 GND1, 3 A1, 4 A2, 5 A3, 6 A4, 7 EN1, 8 GND1, 9 GND2, 10 EN2, 11 B4, 12 B3, 13 B2, 14 B1, 15 GND2, 16 VDD2

## Si8641BD-B-IS2
designator *  value Si8641BD-B-IS2  Reference: U
Low-Power Quad-Channel Digital Isolator, 150Mbps, 2.5-5.5V, 5.0kV isolation, Fail-Safe Low, 8mm creepage, SOIC-16W; ki_keywords: 4Ch 3In 1Out Quad Digital Isolator 150Mbps; ki_fp_filters: SOIC*7.5x10.3mm*P1.27mm*; Footprint: Package_SO:SOIC-16W_7.5x10.3mm_P1.27mm; Datasheet: https://www.silabs.com/documents/public/data-sheets/si864x-datasheet.pdf; Description_: Low-Power Quad-Channel Digital Isolator, 150Mbps, 2.5-5.5V, 5.0kV isolation, Fail-Safe Low, 8mm creepage, SOIC-16W
pins: 1 VDD1, 2 GND1, 3 A1, 4 A2, 5 A3, 6 A4, 7 EN1, 8 GND1, 9 GND2, 10 EN2, 11 B4, 12 B3, 13 B2, 14 B1, 15 GND2, 16 VDD2

## Si8641EB-B-IU
designator *  value Si8641EB-B-IU  Reference: U
Low-Power Quad-Channel Digital Isolator, 150Mbps, 2.5-5.5V, 2.5kV isolation, Fail-Safe High, QSOP-16; ki_keywords: 4Ch 3In 1Out Quad Digital Isolator 150Mbps; ki_fp_filters: QSOP*3.9x4.9mm*P0.635mm*; Footprint: Package_SO:QSOP-16_3.9x4.9mm_P0.635mm; Datasheet: https://www.silabs.com/documents/public/data-sheets/si864x-datasheet.pdf; Description_: Low-Power Quad-Channel Digital Isolator, 150Mbps, 2.5-5.5V, 2.5kV isolation, Fail-Safe High, QSOP-16
pins: 1 VDD1, 2 GND1, 3 A1, 4 A2, 5 A3, 6 A4, 7 EN1, 8 GND1, 9 GND2, 10 EN2, 11 B4, 12 B3, 13 B2, 14 B1, 15 GND2, 16 VDD2

## Si8641EC-B-IS1
designator *  value Si8641EC-B-IS1  Reference: U
Low-Power Quad-Channel Digital Isolator, 150Mbps, 2.5-5.5V, 3.75kV isolation, Fail-Safe High, SOIC-16; ki_keywords: 4Ch 3In 1Out Quad Digital Isolator 150Mbps; ki_fp_filters: SOIC*3.9x9.9mm*P1.27mm*; Footprint: Package_SO:SOIC-16_3.9x9.9mm_P1.27mm; Datasheet: https://www.silabs.com/documents/public/data-sheets/si864x-datasheet.pdf; Description_: Low-Power Quad-Channel Digital Isolator, 150Mbps, 2.5-5.5V, 3.75kV isolation, Fail-Safe High, SOIC-16
pins: 1 VDD1, 2 GND1, 3 A1, 4 A2, 5 A3, 6 A4, 7 EN1, 8 GND1, 9 GND2, 10 EN2, 11 B4, 12 B3, 13 B2, 14 B1, 15 GND2, 16 VDD2

## Si8641ED-B-IS
designator *  value Si8641ED-B-IS  Reference: U
Low-Power Quad-Channel Digital Isolator, 150Mbps, 2.5-5.5V, 5.0kV isolation, Fail-Safe High, SOIC-16W; ki_keywords: 4Ch 3In 1Out Quad Digital Isolator 150Mbps; ki_fp_filters: SOIC*7.5x10.3mm*P1.27mm*; Footprint: Package_SO:SOIC-16W_7.5x10.3mm_P1.27mm; Datasheet: https://www.silabs.com/documents/public/data-sheets/si864x-datasheet.pdf; Description_: Low-Power Quad-Channel Digital Isolator, 150Mbps, 2.5-5.5V, 5.0kV isolation, Fail-Safe High, SOIC-16W
pins: 1 VDD1, 2 GND1, 3 A1, 4 A2, 5 A3, 6 A4, 7 EN1, 8 GND1, 9 GND2, 10 EN2, 11 B4, 12 B3, 13 B2, 14 B1, 15 GND2, 16 VDD2

## Si8641ED-B-IS2
designator *  value Si8641ED-B-IS2  Reference: U
Low-Power Quad-Channel Digital Isolator, 150Mbps, 2.5-5.5V, 5.0kV isolation, Fail-Safe High, 8mm creepage, SOIC-16W; ki_keywords: 4Ch 3In 1Out Quad Digital Isolator 150Mbps; ki_fp_filters: SOIC*7.5x10.3mm*P1.27mm*; Footprint: Package_SO:SOIC-16W_7.5x10.3mm_P1.27mm; Datasheet: https://www.silabs.com/documents/public/data-sheets/si864x-datasheet.pdf; Description_: Low-Power Quad-Channel Digital Isolator, 150Mbps, 2.5-5.5V, 5.0kV isolation, Fail-Safe High, 8mm creepage, SOIC-16W
pins: 1 VDD1, 2 GND1, 3 A1, 4 A2, 5 A3, 6 A4, 7 EN1, 8 GND1, 9 GND2, 10 EN2, 11 B4, 12 B3, 13 B2, 14 B1, 15 GND2, 16 VDD2

## Si8642BA-B-IU
designator *  value Si8642BA-B-IU  Reference: U
Low-Power Quad-Channel Digital Isolator, 150Mbps, 2.5-5.5V, 1.0kV isolation, Fail-Safe Low, QSOP-16; ki_keywords: 4Ch 2In 2Out Quad Digital Isolator 150Mbps; ki_fp_filters: QSOP*3.9x4.9mm*P0.635mm*; Footprint: Package_SO:QSOP-16_3.9x4.9mm_P0.635mm; Datasheet: https://www.silabs.com/documents/public/data-sheets/si864x-datasheet.pdf; Description_: Low-Power Quad-Channel Digital Isolator, 150Mbps, 2.5-5.5V, 1.0kV isolation, Fail-Safe Low, QSOP-16
pins: 1 VDD1, 2 GND1, 3 A1, 4 A2, 5 A3, 6 A4, 7 EN1, 8 GND1, 9 GND2, 10 EN2, 11 B4, 12 B3, 13 B2, 14 B1, 15 GND2, 16 VDD2

## Si8642BB-B-IS
designator *  value Si8642BB-B-IS  Reference: U
Low-Power Quad-Channel Digital Isolator, 150Mbps, 2.5-5.5V, 2.5kV isolation, Fail-Safe Low, SOIC-16W; ki_keywords: 4Ch 2In 2Out Quad Digital Isolator 150Mbps; ki_fp_filters: SOIC*7.5x10.3mm*P1.27mm*; Footprint: Package_SO:SOIC-16W_7.5x10.3mm_P1.27mm; Datasheet: https://www.silabs.com/documents/public/data-sheets/si864x-datasheet.pdf; Description_: Low-Power Quad-Channel Digital Isolator, 150Mbps, 2.5-5.5V, 2.5kV isolation, Fail-Safe Low, SOIC-16W
pins: 1 VDD1, 2 GND1, 3 A1, 4 A2, 5 A3, 6 A4, 7 EN1, 8 GND1, 9 GND2, 10 EN2, 11 B4, 12 B3, 13 B2, 14 B1, 15 GND2, 16 VDD2

## Si8642BB-B-IS1
designator *  value Si8642BB-B-IS1  Reference: U
Low-Power Quad-Channel Digital Isolator, 150Mbps, 2.5-5.5V, 2.5kV isolation, Fail-Safe Low, SOIC-16; ki_keywords: 4Ch 2In 2Out Quad Digital Isolator 150Mbps; ki_fp_filters: SOIC*3.9x9.9mm*P1.27mm*; Footprint: Package_SO:SOIC-16_3.9x9.9mm_P1.27mm; Datasheet: https://www.silabs.com/documents/public/data-sheets/si864x-datasheet.pdf; Description_: Low-Power Quad-Channel Digital Isolator, 150Mbps, 2.5-5.5V, 2.5kV isolation, Fail-Safe Low, SOIC-16
pins: 1 VDD1, 2 GND1, 3 A1, 4 A2, 5 A3, 6 A4, 7 EN1, 8 GND1, 9 GND2, 10 EN2, 11 B4, 12 B3, 13 B2, 14 B1, 15 GND2, 16 VDD2

## Si8642BB-B-IU
designator *  value Si8642BB-B-IU  Reference: U
Low-Power Quad-Channel Digital Isolator, 150Mbps, 2.5-5.5V, 2.5kV isolation, Fail-Safe Low, QSOP-16; ki_keywords: 4Ch 2In 2Out Quad Digital Isolator 150Mbps; ki_fp_filters: QSOP*3.9x4.9mm*P0.635mm*; Footprint: Package_SO:QSOP-16_3.9x4.9mm_P0.635mm; Datasheet: https://www.silabs.com/documents/public/data-sheets/si864x-datasheet.pdf; Description_: Low-Power Quad-Channel Digital Isolator, 150Mbps, 2.5-5.5V, 2.5kV isolation, Fail-Safe Low, QSOP-16
pins: 1 VDD1, 2 GND1, 3 A1, 4 A2, 5 A3, 6 A4, 7 EN1, 8 GND1, 9 GND2, 10 EN2, 11 B4, 12 B3, 13 B2, 14 B1, 15 GND2, 16 VDD2

## Si8642BC-B-IS1
designator *  value Si8642BC-B-IS1  Reference: U
Low-Power Quad-Channel Digital Isolator, 150Mbps, 2.5-5.5V, 3.75kV isolation, Fail-Safe Low, SOIC-16; ki_keywords: 4Ch 2In 2Out Quad Digital Isolator 150Mbps; ki_fp_filters: SOIC*3.9x9.9mm*P1.27mm*; Footprint: Package_SO:SOIC-16_3.9x9.9mm_P1.27mm; Datasheet: https://www.silabs.com/documents/public/data-sheets/si864x-datasheet.pdf; Description_: Low-Power Quad-Channel Digital Isolator, 150Mbps, 2.5-5.5V, 3.75kV isolation, Fail-Safe Low, SOIC-16
pins: 1 VDD1, 2 GND1, 3 A1, 4 A2, 5 A3, 6 A4, 7 EN1, 8 GND1, 9 GND2, 10 EN2, 11 B4, 12 B3, 13 B2, 14 B1, 15 GND2, 16 VDD2

## Si8642BD-B-IS
designator *  value Si8642BD-B-IS  Reference: U
Low-Power Quad-Channel Digital Isolator, 150Mbps, 2.5-5.5V, 5.0kV isolation, Fail-Safe Low, SOIC-16W; ki_keywords: 4Ch 2In 2Out Quad Digital Isolator 150Mbps; ki_fp_filters: SOIC*7.5x10.3mm*P1.27mm*; Footprint: Package_SO:SOIC-16W_7.5x10.3mm_P1.27mm; Datasheet: https://www.silabs.com/documents/public/data-sheets/si864x-datasheet.pdf; Description_: Low-Power Quad-Channel Digital Isolator, 150Mbps, 2.5-5.5V, 5.0kV isolation, Fail-Safe Low, SOIC-16W
pins: 1 VDD1, 2 GND1, 3 A1, 4 A2, 5 A3, 6 A4, 7 EN1, 8 GND1, 9 GND2, 10 EN2, 11 B4, 12 B3, 13 B2, 14 B1, 15 GND2, 16 VDD2

## Si8642BD-B-IS2
designator *  value Si8642BD-B-IS2  Reference: U
Low-Power Quad-Channel Digital Isolator, 150Mbps, 2.5-5.5V, 5.0kV isolation, Fail-Safe Low, 8mm creepage, SOIC-16W; ki_keywords: 4Ch 2In 2Out Quad Digital Isolator 150Mbps; ki_fp_filters: SOIC*7.5x10.3mm*P1.27mm*; Footprint: Package_SO:SOIC-16W_7.5x10.3mm_P1.27mm; Datasheet: https://www.silabs.com/documents/public/data-sheets/si864x-datasheet.pdf; Description_: Low-Power Quad-Channel Digital Isolator, 150Mbps, 2.5-5.5V, 5.0kV isolation, Fail-Safe Low, 8mm creepage, SOIC-16W
pins: 1 VDD1, 2 GND1, 3 A1, 4 A2, 5 A3, 6 A4, 7 EN1, 8 GND1, 9 GND2, 10 EN2, 11 B4, 12 B3, 13 B2, 14 B1, 15 GND2, 16 VDD2

## Si8642EA-B-IU
designator *  value Si8642EA-B-IU  Reference: U
Low-Power Quad-Channel Digital Isolator, 150Mbps, 2.5-5.5V, 1.0kV isolation, Fail-Safe High, QSOP-16; ki_keywords: 4Ch 2In 2Out Quad Digital Isolator 150Mbps; ki_fp_filters: QSOP*3.9x4.9mm*P0.635mm*; Footprint: Package_SO:QSOP-16_3.9x4.9mm_P0.635mm; Datasheet: https://www.silabs.com/documents/public/data-sheets/si864x-datasheet.pdf; Description_: Low-Power Quad-Channel Digital Isolator, 150Mbps, 2.5-5.5V, 1.0kV isolation, Fail-Safe High, QSOP-16
pins: 1 VDD1, 2 GND1, 3 A1, 4 A2, 5 A3, 6 A4, 7 EN1, 8 GND1, 9 GND2, 10 EN2, 11 B4, 12 B3, 13 B2, 14 B1, 15 GND2, 16 VDD2

## Si8642EB-B-IU
designator *  value Si8642EB-B-IU  Reference: U
Low-Power Quad-Channel Digital Isolator, 150Mbps, 2.5-5.5V, 2.5kV isolation, Fail-Safe High, QSOP-16; ki_keywords: 4Ch 2In 2Out Quad Digital Isolator 150Mbps; ki_fp_filters: QSOP*3.9x4.9mm*P0.635mm*; Footprint: Package_SO:QSOP-16_3.9x4.9mm_P0.635mm; Datasheet: https://www.silabs.com/documents/public/data-sheets/si864x-datasheet.pdf; Description_: Low-Power Quad-Channel Digital Isolator, 150Mbps, 2.5-5.5V, 2.5kV isolation, Fail-Safe High, QSOP-16
pins: 1 VDD1, 2 GND1, 3 A1, 4 A2, 5 A3, 6 A4, 7 EN1, 8 GND1, 9 GND2, 10 EN2, 11 B4, 12 B3, 13 B2, 14 B1, 15 GND2, 16 VDD2

## Si8642EC-B-IS1
designator *  value Si8642EC-B-IS1  Reference: U
Low-Power Quad-Channel Digital Isolator, 150Mbps, 2.5-5.5V, 3.75kV isolation, Fail-Safe High, SOIC-16; ki_keywords: 4Ch 2In 2Out Quad Digital Isolator 150Mbps; ki_fp_filters: SOIC*3.9x9.9mm*P1.27mm*; Footprint: Package_SO:SOIC-16_3.9x9.9mm_P1.27mm; Datasheet: https://www.silabs.com/documents/public/data-sheets/si864x-datasheet.pdf; Description_: Low-Power Quad-Channel Digital Isolator, 150Mbps, 2.5-5.5V, 3.75kV isolation, Fail-Safe High, SOIC-16
pins: 1 VDD1, 2 GND1, 3 A1, 4 A2, 5 A3, 6 A4, 7 EN1, 8 GND1, 9 GND2, 10 EN2, 11 B4, 12 B3, 13 B2, 14 B1, 15 GND2, 16 VDD2

## Si8642ED-B-IS
designator *  value Si8642ED-B-IS  Reference: U
Low-Power Quad-Channel Digital Isolator, 150Mbps, 2.5-5.5V, 5.0kV isolation, Fail-Safe High, SOIC-16W; ki_keywords: 4Ch 2In 2Out Quad Digital Isolator 150Mbps; ki_fp_filters: SOIC*7.5x10.3mm*P1.27mm*; Footprint: Package_SO:SOIC-16W_7.5x10.3mm_P1.27mm; Datasheet: https://www.silabs.com/documents/public/data-sheets/si864x-datasheet.pdf; Description_: Low-Power Quad-Channel Digital Isolator, 150Mbps, 2.5-5.5V, 5.0kV isolation, Fail-Safe High, SOIC-16W
pins: 1 VDD1, 2 GND1, 3 A1, 4 A2, 5 A3, 6 A4, 7 EN1, 8 GND1, 9 GND2, 10 EN2, 11 B4, 12 B3, 13 B2, 14 B1, 15 GND2, 16 VDD2

## Si8642ED-B-IS2
designator *  value Si8642ED-B-IS2  Reference: U
Low-Power Quad-Channel Digital Isolator, 150Mbps, 2.5-5.5V, 5.0kV isolation, Fail-Safe High, 8mm creepage, SOIC-16W; ki_keywords: 4Ch 2In 2Out Quad Digital Isolator 150Mbps; ki_fp_filters: SOIC*7.5x10.3mm*P1.27mm*; Footprint: Package_SO:SOIC-16W_7.5x10.3mm_P1.27mm; Datasheet: https://www.silabs.com/documents/public/data-sheets/si864x-datasheet.pdf; Description_: Low-Power Quad-Channel Digital Isolator, 150Mbps, 2.5-5.5V, 5.0kV isolation, Fail-Safe High, 8mm creepage, SOIC-16W
pins: 1 VDD1, 2 GND1, 3 A1, 4 A2, 5 A3, 6 A4, 7 EN1, 8 GND1, 9 GND2, 10 EN2, 11 B4, 12 B3, 13 B2, 14 B1, 15 GND2, 16 VDD2

## Si8645BA-B-IU
designator *  value Si8645BA-B-IU  Reference: U
Low-Power Quad-Channel Digital Isolator, 150Mbps, 2.5-5.5V, 1.0kV isolation, Fail-Safe Low, QSOP-16; ki_keywords: 4Ch 4In Quad Digital Isolator 150Mbps; ki_fp_filters: QSOP*3.9x4.9mm*P0.635mm*; Footprint: Package_SO:QSOP-16_3.9x4.9mm_P0.635mm; Datasheet: https://www.silabs.com/documents/public/data-sheets/si864x-datasheet.pdf; Description_: Low-Power Quad-Channel Digital Isolator, 150Mbps, 2.5-5.5V, 1.0kV isolation, Fail-Safe Low, QSOP-16
pins: 1 VDD1, 2 GND1, 3 A1, 4 A2, 5 A3, 6 A4, 7 NC, 8 GND1, 9 GND2, 10 NC, 11 B4, 12 B3, 13 B2, 14 B1, 15 GND2, 16 VDD2